# EAGLE library part 691307400006 (library Wurth_Elektronik_Electromechanic_Terminal_Blocks_Connectors_rev16b)
WR - TBL Serie 3074 - 7.62mm Reversed Gender Vertical PCB Header , 6 pins=>Code : WR-TBL_3074_691307400006 <http://katalog.we-online.de/media/images/eican/WR-TBL_3074_691307400003_pf2.jpg> Details see: http://katalog.we-online.de/en/em/691_307_400_0xx Created 2014-06-25, Karrer Zheng 2014 (C) Würth Elektronik
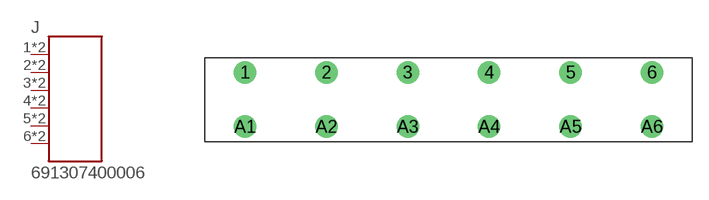
[diagram p183: symbol with the pads of 691307400006; footprint 691307400006]

Designator prefix J

## 691307400006  [691307400006]
1  1  pas
2  2  pas
3  3  pas
4  4  pas
5  5  pas
6  6  pas
A1  1  pas
A2  2  pas
A3  3  pas
A4  4  pas
A5  5  pas
A6  6  pas

## Footprint 691307400006 (pad centres in mm)
WR - TBL Serie 3074 - 7.62mm Reversed Gender Vertical PCB Header , 6 pins
drill 1.4: 1 -19.05,2.54; 2 -11.43,2.54; 3 -3.81,2.54; 4 3.81,2.54; 5 11.43,2.54; 6 19.05,2.54; A1 -19.05,-2.54; A2 -11.43,-2.54; A3 -3.81,-2.54; A4 3.81,-2.54; A5 11.43,-2.54; A6 19.05,-2.54